# Altium footprint library LINUX.PcbLib: 113 footprints (part 8 of 8)
Each footprint in its own frame and in the unit in brackets; x right, y up, seen from the top. Pads: shape width x height; smd on the part's side, far side on the other; paste and mask are expansions set on the pad; w line width, h text height; cw(c..) or ccw(c..) is an arc to the next point about the centre after c.
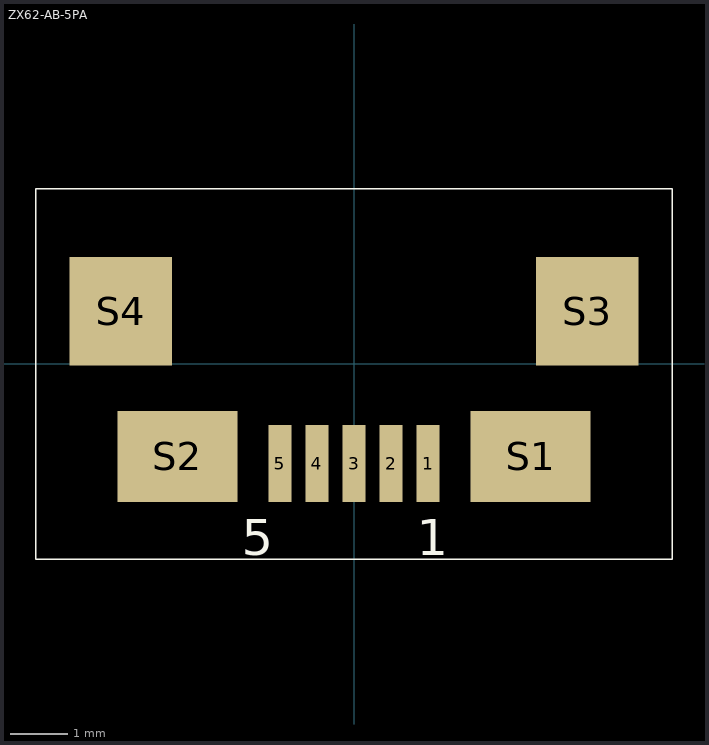
[diagram p7: the footprint, top view; thin cyan lines are the x and y axes]

## ZX62-AB-5PA [mm] "ZX62-AB-5PA"
pads (9):
  rect 0.4x1.35 smd: 1(1.3,-1.75) 2(0.65,-1.75) 3(0,-1.75) 4(-0.65,-1.75) 5(-1.3,-1.75)
  rect 2.1x1.6 smd: S1(3.1,-1.625) S2(-3.1,-1.625)
  rect 1.8x1.9 smd: S3(4.1,0.925) S4(-4.1,0.925)
Top Overlay:
  lines w0.025: -5.588,-3.429 5.588,-3.429 5.588,3.075 -5.588,3.075 -5.588,-3.429
  text "5" at -1.971,-3.362 h0.64
  text "1" at 1.105,-3.362 h0.64